# Altium footprint library 2440_LIB.PcbLib: 50 footprints (part 2 of 4)
Each footprint in its own frame and in the unit in brackets; x right, y up, seen from the top. Pads: shape width x height; smd on the part's side, far side on the other; paste and mask are expansions set on the pad; w line width, h text height; cw(c..) or ccw(c..) is an arc to the next point about the centre after c.
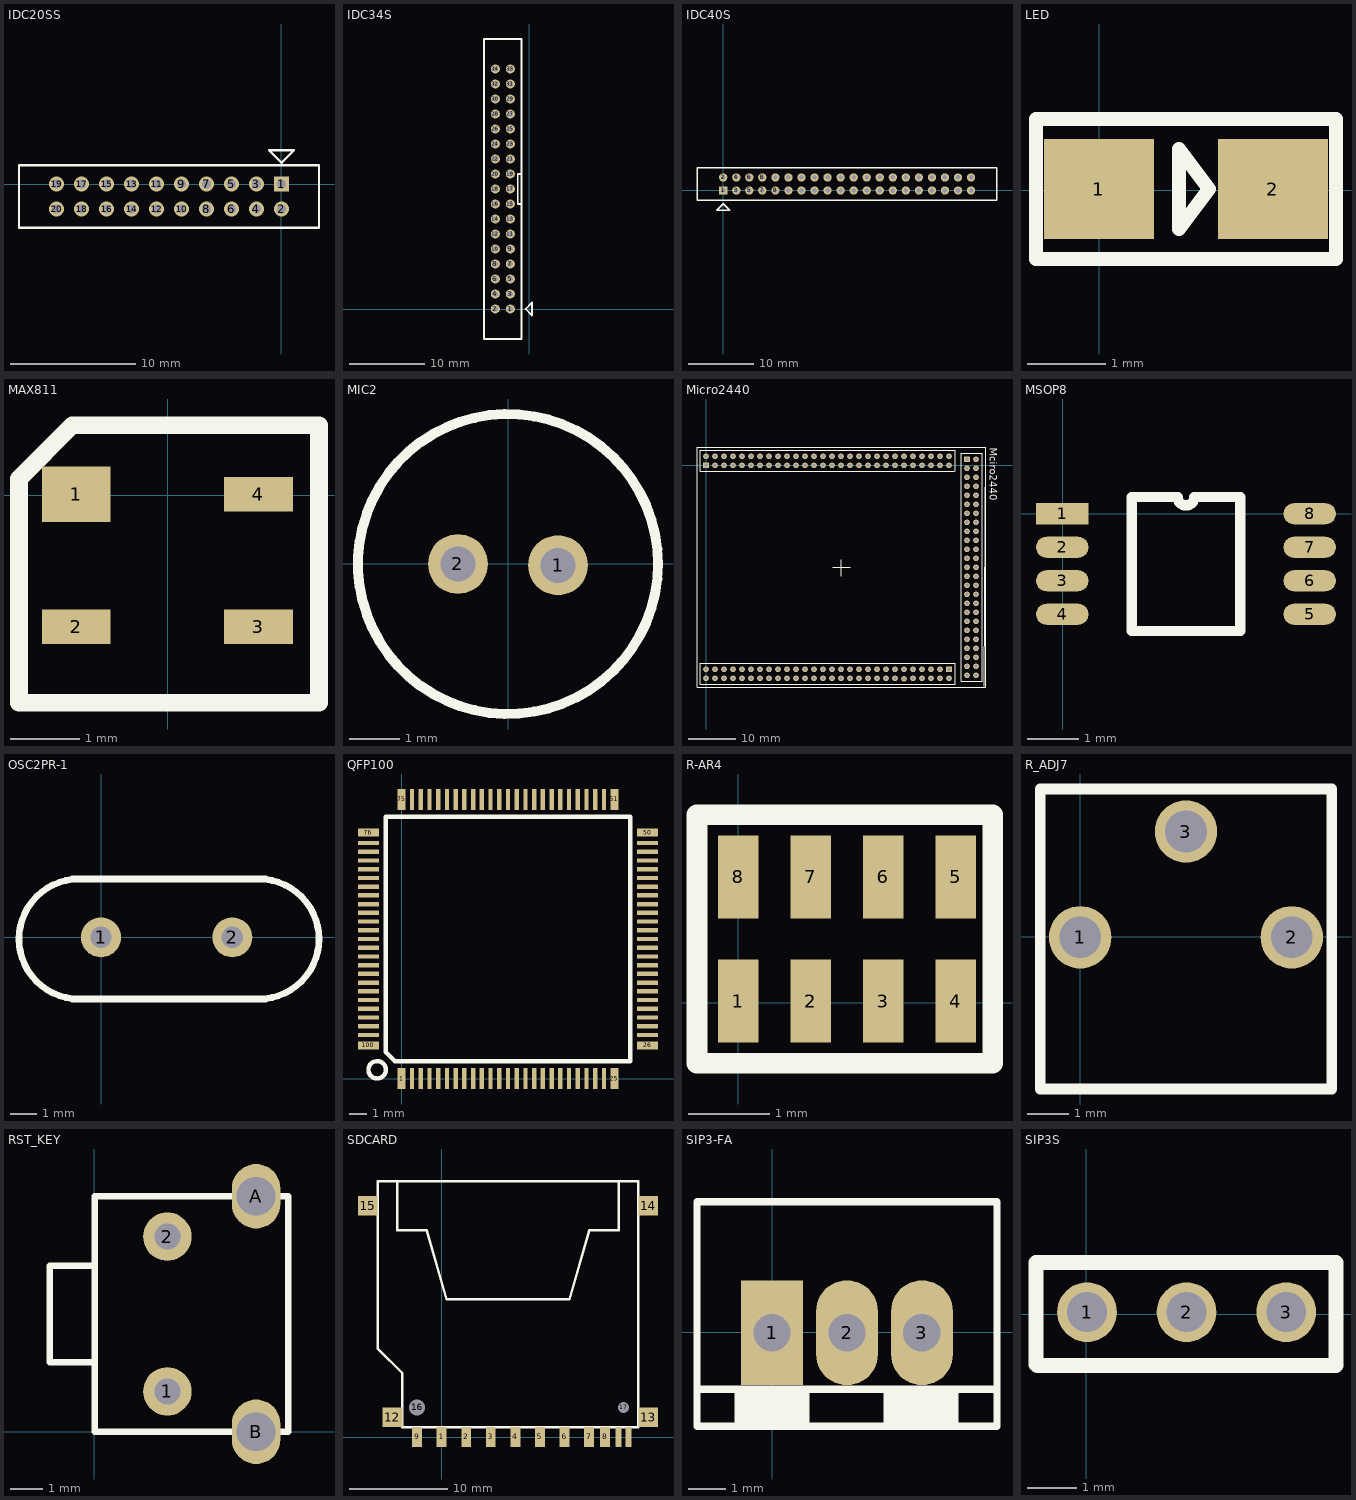
[diagram p1: the footprints below, top view; thin cyan lines are the x and y axes]

## IDC20SS [mm]
pads (20):
  rect 1.2x1.2 hole 0.7: 1(0.002,0.003)
  round 1.2 hole 0.7: 2(0.002,-1.997) 3(-1.998,0.003) 4(-1.998,-1.997) 5(-3.998,0.003) 6(-3.998,-1.997) 7(-5.998,0.003) 8(-5.998,-1.997) 9(-7.998,0.003) 10(-7.998,-1.997) 11(-9.998,0.003) 12(-9.998,-1.997) 13(-11.998,0.003) 14(-11.998,-1.997) 15(-13.998,0.003) 16(-13.998,-1.997) 17(-15.998,0.003) 18(-15.998,-1.997) 19(-17.998,0.003) 20(-17.998,-1.997)
TopOverlay:
  lines w0.2: -20.998,-3.497 -20.998,1.503 3.002,1.503 3.002,-3.497 -20.998,-3.497 ; -0.998,2.703 0.002,1.703 1.002,2.703 -0.998,2.703

## IDC34S [mm]
pads (34):
  round 1.2 hole 0.7: 1(-2.504,0.016) 2(-4.504,0.016) 3(-2.504,2.016) 4(-4.504,2.016) 5(-2.504,4.016) 6(-4.504,4.016) 7(-2.504,6.016) 8(-4.504,6.016) 9(-2.504,8.016) 10(-4.504,8.016) 11(-2.504,10.016) 12(-4.504,10.016) 13(-2.504,12.016) 14(-4.504,12.016) 15(-2.504,14.016) 16(-4.504,14.016) 17(-2.504,16.016) 18(-4.504,16.016) 19(-2.504,18.016) 20(-4.504,18.016) 21(-2.504,20.016) 22(-4.504,20.016) 23(-2.504,22.016) 24(-4.504,22.016) 25(-2.504,24.016) 26(-4.504,24.016) 27(-2.504,26.016) 28(-4.504,26.016) 29(-2.504,28.016) 30(-4.504,28.016) 31(-2.504,30.016) 32(-4.504,30.016) 33(-2.504,32.016) 34(-4.504,32.016)
TopOverlay:
  lines w0.254: -1.004,14.008 -1.513,14.008 -1.513,18.008 -1.004,18.008 ; -6.004,-3.991 -6.004,36.009 -1.004,36.009 -1.004,-3.991 -6.005,-3.991 ; -0.481,0.009 0.369,-0.841 0.369,0.859 -0.481,0.009

## IDC40S [mm]
pads (40):
  rect 1.27x1.27 hole 0.7: 1(0.028,-0.011)
  round 1.27 hole 0.7: 2(0.028,1.989) 3(2.028,-0.011) 4(2.028,1.989) 5(4.028,-0.011) 6(4.028,1.989) 7(6.028,-0.011) 8(6.028,1.989) 9(8.028,-0.011) 10(8.028,1.989) 11(10.028,-0.011) 12(10.028,1.989) 13(12.028,-0.011) 14(12.028,1.989) 15(14.028,-0.011) 16(14.028,1.989) 17(16.028,-0.011) 18(16.028,1.989) 19(18.028,-0.011) 20(18.028,1.989) 21(20.028,-0.011) 22(20.028,1.989) 23(22.028,-0.011) 24(22.028,1.989) 25(24.028,-0.011) 26(24.028,1.989) 27(26.028,-0.011) 28(26.028,1.989) 29(28.028,-0.011) 30(28.028,1.989) 31(30.028,-0.011) 32(30.028,1.989) 33(32.028,-0.011) 34(32.028,1.989) 35(34.028,-0.011) 36(34.028,1.989) 37(36.028,-0.011) 38(36.028,1.989) 39(38.028,-0.011) 40(38.028,1.989)
TopOverlay:
  lines w0.2: -3.993,-1.511 42.007,-1.511 42.007,3.489 -3.993,3.489 -3.993,-1.511
  lines w0.254: -0.988,-3.059 1.044,-3.059 0.028,-2.043 -0.988,-3.059

## LED [mm]
pads (2):
  rect 1.4x1.27 smd: 1(-0.003,0.013) 2(2.207,0.013)
TopOverlay:
  lines w0.178: 3.008,0.902 3.007,0.902 ; 3.007,0.902 3.007,-0.876 -0.803,-0.876 -0.803,0.013 -0.803,0.902 3.007,0.902 ; 1.013,-0.495 1.013,0.521 1.394,0.013 1.013,-0.495

## MAX811 [mm]
pads (4):
  rect 1x0.8 smd: 1(-1.327,0.013)
  rect 1x0.5 smd: 2(-1.327,-1.907) 3(1.313,-1.907) 4(1.313,0.013)
TopOverlay:
  lines w0.254: -2.157,-3.012 2.193,-3.012 2.193,1.013 -1.382,1.013 -2.157,0.238 -2.157,-3.012

## MIC2 [mm]
pads (2):
  round 1.2 hole 0.7: 1(0.995,-0.027) 2(-1.005,-0.002)
TopOverlay:
  circle w0.2: c-0.005,-0.002 r3

## Micro2440 [mm]
pads (162):
  rect 1.2x1.2 hole 0.7: PA1(0,0) PB1(55.245,1.27) PC1(51.435,-43.18)
  round 1.2 hole 0.7: PA2(0,1.905) PA3(1.905,0) PA4(1.905,1.905) PA5(3.81,0) PA6(3.81,1.905) PA7(5.715,0) PA8(5.715,1.905) PA9(7.62,0) PA10(7.62,1.905) PA11(9.525,0) PA12(9.525,1.905) PA13(11.43,0) PA14(11.43,1.905) PA15(13.335,0) PA16(13.335,1.905) PA17(15.24,0) PA18(15.24,1.905) PA19(17.145,0) PA20(17.145,1.905) PA21(19.05,0) PA22(19.05,1.905) PA23(20.955,0) PA24(20.955,1.905) PA25(22.86,0) PA26(22.86,1.905) PA27(24.765,0) PA28(24.765,1.905) PA29(26.67,0) PA30(26.67,1.905) PA31(28.575,0) PA32(28.575,1.905) PA33(30.48,0) PA34(30.48,1.905) PA35(32.385,0) PA36(32.385,1.905) PA37(34.29,0) PA38(34.29,1.905) PA39(36.195,0) PA40(36.195,1.905) PA41(38.1,0) PA42(38.1,1.905) PA43(40.005,0) PA44(40.005,1.905) PA45(41.91,0) PA46(41.91,1.905) PA47(43.815,0) PA48(43.815,1.905) PA49(45.72,0) PA50(45.72,1.905) PA51(47.625,0) PA52(47.625,1.905) PA53(49.53,0) PA54(49.53,1.905) PA55(51.435,0) PA56(51.435,1.905) PB2(57.15,1.27) PB3(55.245,-0.635) PB4(57.15,-0.635) PB5(55.245,-2.54) PB6(57.15,-2.54) PB7(55.245,-4.445) PB8(57.15,-4.445) PB9(55.245,-6.35) PB10(57.15,-6.35) PB11(55.245,-8.255) PB12(57.15,-8.255) PB13(55.245,-10.16) PB14(57.15,-10.16) PB15(55.245,-12.065) PB16(57.15,-12.065) PB17(55.245,-13.97) PB18(57.15,-13.97) PB19(55.245,-15.875) PB20(57.15,-15.875) PB21(55.245,-17.78) PB22(57.15,-17.78) PB23(55.245,-19.685) PB24(57.15,-19.685) PB25(55.245,-21.59) PB26(57.15,-21.59) PB27(55.245,-23.495) PB28(57.15,-23.495) PB29(55.245,-25.4) PB30(57.15,-25.4) PB31(55.245,-27.305) PB32(57.15,-27.305) PB33(55.245,-29.21) PB34(57.15,-29.21) PB35(55.245,-31.115) PB36(57.15,-31.115) PB37(55.245,-33.02) PB38(57.15,-33.02) PB39(55.245,-34.925) PB40(57.15,-34.925) PB41(55.245,-36.83) PB42(57.15,-36.83) PB43(55.245,-38.735) PB44(57.15,-38.735) PB45(55.245,-40.64) PB46(57.15,-40.64) PB47(55.245,-42.545) PB48(57.15,-42.545) PB49(55.245,-44.45) PB50(57.15,-44.45) PC2(51.435,-45.085) PC3(49.53,-43.18) PC4(49.53,-45.085) PC5(47.625,-43.18) PC6(47.625,-45.085) PC7(45.72,-43.18) PC8(45.72,-45.085) PC9(43.815,-43.18) PC10(43.815,-45.085) PC11(41.91,-43.18) PC12(41.91,-45.212) PC13(40.005,-43.18) PC14(40.005,-45.085) PC15(38.1,-43.18) PC16(38.1,-45.085) PC17(36.195,-43.18) PC18(36.195,-45.085) PC19(34.29,-43.18) PC20(34.29,-45.085) PC21(32.385,-43.18) PC22(32.385,-45.085) PC23(30.48,-43.18) PC24(30.48,-45.085) PC25(28.575,-43.18) PC26(28.575,-45.085) PC27(26.67,-43.18) PC28(26.67,-45.085) PC29(24.765,-43.18) PC30(24.765,-45.085) PC31(22.86,-43.18) PC32(22.86,-45.085) PC33(20.955,-43.18) PC34(20.955,-45.085) PC35(19.05,-43.18) PC36(19.05,-45.085) PC37(17.145,-43.18) PC38(17.145,-45.085) PC39(15.24,-43.18) PC40(15.24,-45.085) PC41(13.335,-43.18) PC42(13.335,-45.085) PC43(11.43,-43.18) PC44(11.43,-45.085) PC45(9.525,-43.18) PC46(9.525,-45.085) PC47(7.62,-43.18) PC48(7.62,-45.085) PC49(5.715,-43.18) PC50(5.715,-45.085) PC51(3.81,-43.18) PC52(3.81,-45.085) PC53(1.905,-43.18) PC54(1.905,-45.085) PC55(0,-43.18) PC56(0,-45.085)
TopOverlay:
  lines w0.254: 26.797,-21.59 30.48,-21.59 ; 28.575,-23.495 28.575,-19.939 ; 58.928,-46.736 59.182,3.81 ; 59.182,3.81 -1.905,3.81 -1.905,-46.99 59.055,-46.99 59.182,-46.863 59.182,3.81 ; -1.27,-46.355 0,-46.355 52.705,-46.355 52.705,-41.91 -1.27,-41.91 -1.27,-46.355 ; -1.27,-1.27 52.578,-1.27 52.705,-1.143 52.705,3.175 -1.27,3.175 -1.27,-1.27 ; 53.975,-45.72 53.975,2.54 58.42,2.54 58.42,-45.72 53.975,-45.72
  text "Mciro2440" at 60.071,3.683 h1.52

## MSOP8 [mm]
pads (8):
  rect 1.02x0.41 smd: 1(-0.007,0.004)
  oval 1.02x0.41 smd: 2(-0.007,-0.646) 3(-0.007,-1.297) 4(-0.007,-1.946) 5(4.793,-1.946) 6(4.793,-1.297) 7(4.793,-0.646) 8(4.793,0.004)
TopOverlay:
  lines w0.2: 1.338,-2.271 3.448,-2.271 3.448,0.329 2.556,0.329 cw(c2.393,0.329) 2.231,0.329 1.338,0.329 1.338,-2.271

## OSC2PR-1 [mil]
pads (2):
  round 60 hole 32: 1(-0.31,-0.47) 2(196.69,-0.47)
TopOverlay:
  lines w10: -43.31,-92.97 246.69,-92.97 ; -43.31,87.03 246.69,87.03 ; -33.31,-92.97 cw(c-33.31,-2.97) -33.31,87.03 ; 236.69,-92.97 ccw(c236.69,-2.97) 236.69,87.03

## QFP100 [mm]
pads (100):
  rect 0.45x1.2 smd: 1(-0.002,0.012) 25(12.198,0.012) 51(12.198,16.012) 75(-0.002,16.012)
  rect 0.25x1.2 smd: 2(0.598,0.012) 3(1.098,0.012) 4(1.598,0.012) 5(2.098,0.012) 6(2.598,0.012) 7(3.098,0.012) 8(3.598,0.012) 9(4.098,0.012) 10(4.598,0.012) 11(5.098,0.012) 12(5.598,0.012) 13(6.098,0.012) 14(6.598,0.012) 15(7.098,0.012) 16(7.598,0.012) 17(8.098,0.012) 18(8.598,0.012) 19(9.098,0.012) 20(9.598,0.012) 21(10.098,0.012) 22(10.598,0.012) 23(11.098,0.012) 24(11.598,0.012) 52(11.598,16.012) 53(11.098,16.012) 54(10.598,16.012) 55(10.098,16.012) 56(9.598,16.012) 57(9.098,16.012) 58(8.598,16.012) 59(8.098,16.012) 60(7.598,16.012) 61(7.098,16.012) 62(6.598,16.012) 63(6.098,16.012) 64(5.598,16.012) 65(5.098,16.012) 66(4.598,16.012) 67(4.098,16.012) 68(3.598,16.012) 69(3.098,16.012) 70(2.598,16.012) 71(2.098,16.012) 72(1.598,16.012) 73(1.098,16.012) 74(0.598,16.012)
  rect 1.2x0.45 smd: 26(14.098,1.912) 50(14.098,14.112) 76(-1.902,14.112) 100(-1.902,1.912)
  rect 1.2x0.25 smd: 27(14.098,2.512) 28(14.098,3.012) 29(14.098,3.512) 30(14.098,4.012) 31(14.098,4.512) 32(14.098,5.012) 33(14.098,5.512) 34(14.098,6.012) 35(14.098,6.512) 36(14.098,7.012) 37(14.098,7.512) 38(14.098,8.012) 39(14.098,8.512) 40(14.098,9.012) 41(14.098,9.512) 42(14.098,10.012) 43(14.098,10.512) 44(14.098,11.012) 45(14.098,11.512) 46(14.098,12.012) 47(14.098,12.512) 48(14.098,13.012) 49(14.098,13.512) 77(-1.902,13.512) 78(-1.902,13.012) 79(-1.902,12.512) 80(-1.902,12.012) 81(-1.902,11.512) 82(-1.902,11.012) 83(-1.902,10.512) 84(-1.902,10.012) 85(-1.902,9.512) 86(-1.902,9.012) 87(-1.902,8.512) 88(-1.902,8.012) 89(-1.902,7.512) 90(-1.902,7.012) 91(-1.902,6.512) 92(-1.902,6.012) 93(-1.902,5.512) 94(-1.902,5.012) 95(-1.902,4.512) 96(-1.902,4.012) 97(-1.902,3.512) 98(-1.902,3.012) 99(-1.902,2.512)
TopOverlay:
  circle w0.254: c-1.402,0.512 r0.5
  lines w0.254: -0.902,1.512 -0.902,15.012 13.098,15.012 13.098,1.012 -0.402,1.012 -0.902,1.512

## R-AR4 [mm]
pads (8):
  rect 0.5x1.016 smd: 1(-0.001,0.021) 2(0.888,0.021) 3(1.777,0.021) 4(2.666,0.021) 5(2.666,1.545) 6(1.777,1.545) 7(0.888,1.545) 8(-0.001,1.545)
TopOverlay:
  lines w0.254: 3.072,-0.741 -0.509,-0.741 -0.509,2.307 3.123,2.307 3.123,-0.741

## R_ADJ7 [mm]
pads (3):
  round 1.5 hole 1: 1(-0.004,-0.016) 2(5.076,-0.016) 3(2.536,2.524)
TopOverlay:
  lines w0.254: -0.964,-3.656 6.036,-3.656 6.036,3.544 -0.964,3.544 -0.964,-3.616

## RST_KEY [mm]
pads (4):
  round 1.5 hole 0.8: 1(2.265,1.243) 2(2.265,6.043)
  oval 1.5x2 hole 1.2: A(5.015,7.293) B(5.015,-0.007)
TopOverlay:
  lines w0.2: 0.015,2.143 -1.385,2.143 -1.385,5.143 0.015,5.143 ; 0.015,-0.007 0.015,7.293 6.015,7.293 6.015,-0.007 0.015,-0.007

## SDCARD [mm]
pads (17):
  rect 1x2 smd: 1(0.003,0.029) 2(2.503,0.029) 3(5.003,0.029) 4(7.503,0.029) 5(10.003,0.029) 6(12.503,0.029) 7(15.003,0.029) 8(16.628,0.029) 9(-2.497,0.029)
  rect 0.6x2 smd: 10(19.003,0.029) 11(18.003,0.029)
  rect 2x2 smd: 12(-4.997,2.029) 13(21.003,2.029) 14(21.003,23.529) 15(-7.497,23.529)
  round 1.5 hole 1.6: 16(-2.497,3.029)
  round 1 hole 1.1: 17(18.503,3.029)
TopOverlay:
  lines w0.254: -4.497,26.029 -4.497,21.029 -1.497,21.029 0.503,14.029 13.003,14.029 15.003,21.029 18.003,21.029 18.003,26.029 ; -6.497,9.029 -6.497,26.029 20.003,26.029 20.003,1.029 -3.997,1.029 -3.997,6.529 -6.497,9.029

## SIP3-FA [mm]
pads (3):
  rect 1.651x2.8 hole 1: 1(-0.004,-0.015)
  oval 1.651x2.8 hole 1: 2(1.996,-0.015) 3(3.996,-0.015)
TopOverlay:
  region: 4.971,-1.515 2.971,-1.515 2.971,-2.515 4.971,-2.515
  region: 0.996,-1.513 -1.004,-1.513 -1.004,-2.513 0.996,-2.513
  lines w0.2: -2.004,-1.515 5.996,-1.515 ; -2.004,-2.515 -2.004,3.485 5.996,3.485 5.996,-2.515 -2.004,-2.515

## SIP3S [mm]
pads (3):
  round 1.2 hole 0.8: 1(0.019,0.046) 2(2.019,0.046) 3(4.019,0.046)
TopOverlay:
  lines w0.305: -1.006,-1.004 -1.006,0.046 -1.006,1.046 5.019,1.046 5.019,-1.029 -0.981,-1.029 -1.006,-1.004